# Altium footprint library Leaded.pcblib: 24 footprints (part 2 of 2)
Each footprint in its own frame and in the unit in brackets; x right, y up, seen from the top. Pads: shape width x height; smd on the part's side, far side on the other; paste and mask are expansions set on the pad; w line width, h text height; cw(c..) or ccw(c..) is an arc to the next point about the centre after c.
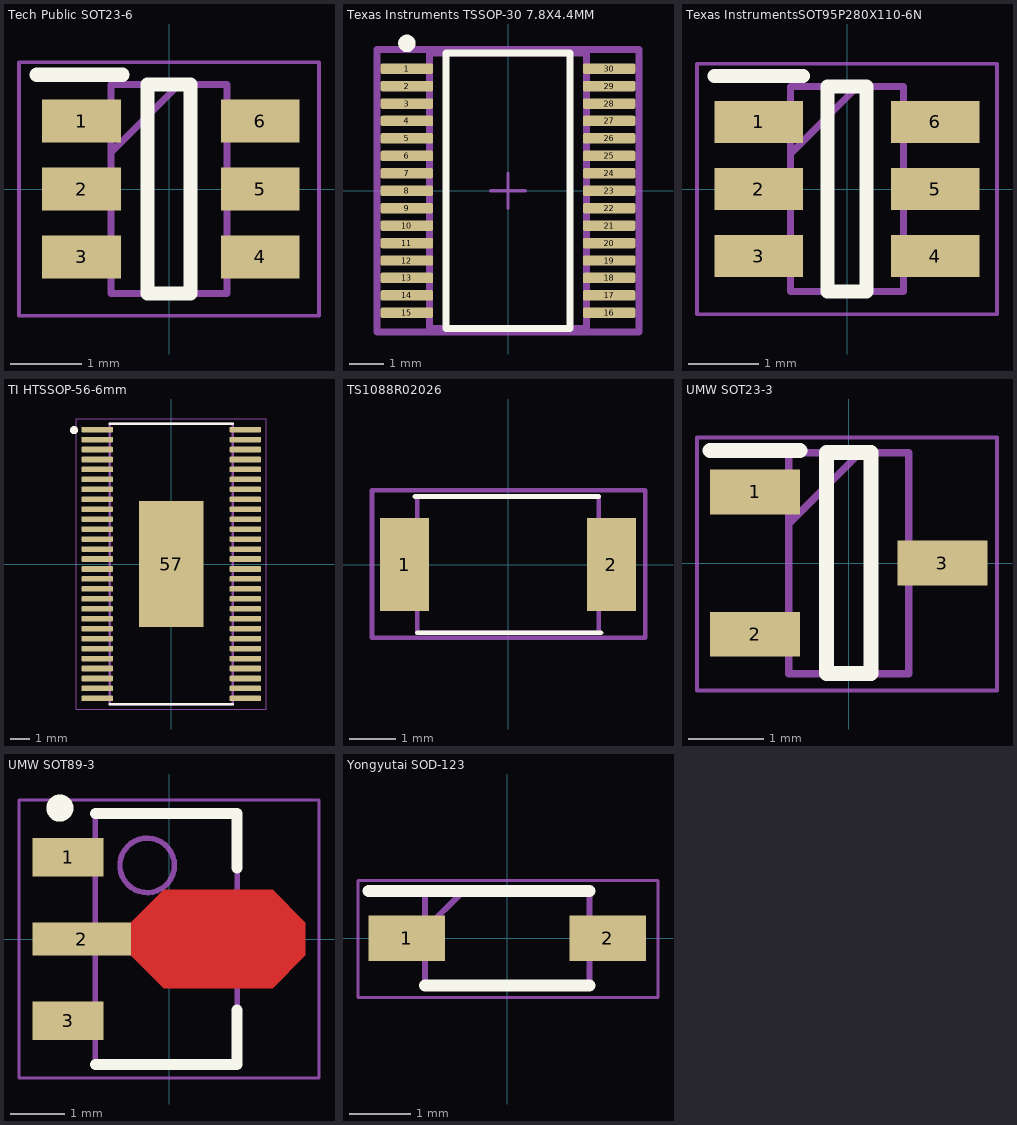
[diagram p1: the footprints below, top view; thin cyan lines are the x and y axes]

## Tech Public SOT23-6 [mm]
height 1.45
pads (6):
  rect 1.1x0.6 smd paste-0.03 mask+0.1: 1(-1.225,0.95) 2(-1.225,0) 3(-1.225,-0.95) 4(1.275,-0.95) 5(1.275,0) 6(1.275,0.95)
Top Overlay:
  lines w0.2: -1.85,1.6 -0.65,1.6 ; -0.3,-1.462 -0.3,1.462 0.3,1.462 0.3,-1.462 -0.3,-1.462
Mechanical 13:
  lines w0.1: -0.812,0.512 0.138,1.462 ; -0.812,-1.462 0.812,-1.462 0.812,1.462 -0.812,1.462 -0.812,-1.462
Mechanical 15:
  lines w0.05: -2.1,-1.775 2.1,-1.775 2.1,1.775 -2.1,1.775 -2.1,-1.775
3D body "USBLC6-2SC6.stp": height 1.45, standoff 0, extent -1.4,-1.462 1.4,1.462

## Texas Instruments TSSOP-30 7.8X4.4MM [mm]
height 1.2
pads (30):
  rrect33% 1.5x0.3 smd paste-0.006 mask+0.05: 1(-2.9,3.5) 2(-2.9,3) 3(-2.9,2.5) 4(-2.9,2) 5(-2.9,1.5) 6(-2.9,1) 7(-2.9,0.5) 8(-2.9,0) 9(-2.9,-0.5) 10(-2.9,-1) 11(-2.9,-1.5) 12(-2.9,-2) 13(-2.9,-2.5) 14(-2.9,-3) 15(-2.9,-3.5) 16(2.9,-3.5) 17(2.9,-3) 18(2.9,-2.5) 19(2.9,-2) 20(2.9,-1.5) 21(2.9,-1) 22(2.9,-0.5) 23(2.9,0) 24(2.9,0.5) 25(2.9,1) 26(2.9,1.5) 27(2.9,2) 28(2.9,2.5) 29(2.9,3) 30(2.9,3.5)
Top Overlay:
  circle w0.25: c-2.9,4.225 r0.125
  lines w0.2: -1.775,-3.95 1.775,-3.95 1.775,3.95 -1.775,3.95 -1.775,-3.95
Top 3D Body:
  lines w0.2: -2.25,-3.95 2.25,-3.95 2.25,3.95 -2.25,3.95 -2.25,-3.95
Top Component Center:
  lines w0.1: -0.5,0 0.5,0 ; 0,-0.5 0,0.5
Top Courtyard:
  lines w0.2: -3.75,-4.05 3.75,-4.05 3.75,4.05 -3.75,4.05 -3.75,-4.05
Top Assembly:
  lines w0.2: -3.75,-4.05 3.75,-4.05 3.75,4.05 -3.75,4.05 -3.75,-4.05
  text ".Designator" at -2.252,-0.226 h1
3D body "IC_Texas_Instruments_BQ7693003DBTR_eec.STEP": height 0.25, standoff 0, extent -3.75,-4.05 3.75,4.05

## Texas InstrumentsSOT95P280X110-6N [mm]
height 1.1
pads (6):
  rect 1.25x0.6 smd: 1(-1.25,0.95) 2(-1.25,0) 3(-1.25,-0.95) 4(1.25,-0.95) 5(1.25,0) 6(1.25,0.95)
Top Overlay:
  lines w0.2: -1.875,1.6 -0.625,1.6 ; -0.275,-1.45 -0.275,1.45 0.275,1.45 0.275,-1.45 -0.275,-1.45
Top Designator:
  text ".Designator" at -7.618,-0.508 h1.52
Mechanical 13:
  lines w0.1: -0.8,0.5 0.15,1.45 ; -0.8,-1.45 -0.8,1.45 0.8,1.45 0.8,-1.45 -0.8,-1.45
Mechanical 15:
  lines w0.05: -2.125,-1.775 -2.125,1.775 2.125,1.775 2.125,-1.775 -2.125,-1.775
3D body "LMR16006XDDCR.stp": height 0.97, standoff 0, extent -1.4,-1.45 1.4,1.45

## TI HTSSOP-56-6mm [mm]
pads (57):
  rrect25% 1.57x0.28 smd: 1(-3.72,6.75) 2(-3.72,6.25) 3(-3.72,5.75) 4(-3.72,5.25) 5(-3.72,4.75) 6(-3.72,4.25) 7(-3.72,3.75) 8(-3.72,3.25) 9(-3.72,2.75) 10(-3.72,2.25) 11(-3.72,1.75) 12(-3.72,1.25) 13(-3.72,0.75) 14(-3.72,0.25) 15(-3.72,-0.25) 16(-3.72,-0.75) 17(-3.72,-1.25) 18(-3.72,-1.75) 19(-3.72,-2.25) 20(-3.72,-2.75) 21(-3.72,-3.25) 22(-3.72,-3.75) 23(-3.72,-4.25) 24(-3.72,-4.75) 25(-3.72,-5.25) 26(-3.72,-5.75) 27(-3.72,-6.25) 28(-3.72,-6.75) 29(3.72,-6.75) 30(3.72,-6.25) 31(3.72,-5.75) 32(3.72,-5.25) 33(3.72,-4.75) 34(3.72,-4.25) 35(3.72,-3.75) 36(3.72,-3.25) 37(3.72,-2.75) 38(3.72,-2.25) 39(3.72,-1.75) 40(3.72,-1.25) 41(3.72,-0.75) 42(3.72,-0.25) 43(3.72,0.25) 44(3.72,0.75) 45(3.72,1.25) 46(3.72,1.75) 47(3.72,2.25) 48(3.72,2.75) 49(3.72,3.25) 50(3.72,3.75) 51(3.72,4.25) 52(3.72,4.75) 53(3.72,5.25) 54(3.72,5.75) 55(3.72,6.25) 56(3.72,6.75)
  rect 3.235x6.35 smd paste-4: 57(0,0)
Top Overlay:
  circle w0.2: c-4.886,6.725 r0.1
  lines w0.127: -3.1,-7.05 3.1,-7.05 ; -3.1,7.05 3.1,7.05
Top Paste:
  region: 1.023,-2.003 -1.024,-2.003 -1.024,2 1.023,2
Mechanical 13:
  lines w0.127: -3.1,-7.05 3.1,-7.05 3.1,7.05 -3.1,7.05 -3.1,-7.05
Mechanical 15:
  lines w0.05: -4.76,-7.3 4.76,-7.3 4.76,7.3 -4.76,7.3 -4.76,-7.3
3D body "step_temp.STEP": height 1.19, standoff -0.01, extent -4.05,-7 4.05,7

## TS1088R02026 [mm]
pads (2):
  rect 1.05x2 smd: 1(-2.225,0) 2(2.225,0)
Top Overlay:
  lines w0.1: -2,1.465 1.95,1.465 ; -1.95,-1.465 2,-1.465
Top 3D Body:
  lines w0.1: -1.95,-1.465 -1.95,1.465 1.95,1.465 1.95,-1.465 -1.95,-1.465
Top Courtyard:
  lines w0.1: -2.925,-1.575 2.95,-1.575 2.95,1.6 -2.925,1.6 -2.925,-1.575

## UMW SOT23-3 [mm]
height 1.15
pads (3):
  rect 1.2x0.6 smd: 1(-1.25,0.95) 2(-1.25,-0.95) 3(1.25,0)
Top Overlay:
  lines w0.2: -1.85,1.5 -0.65,1.5 ; -0.3,-1.475 -0.3,1.475 0.3,1.475 0.3,-1.475 -0.3,-1.475
Mechanical 13:
  lines w0.1: -0.8,0.525 0.15,1.475 ; -0.8,-1.475 -0.8,1.475 0.8,1.475 0.8,-1.475 -0.8,-1.475
Mechanical 15:
  lines w0.05: -2.025,-1.7 -2.025,1.675 1.979,1.675 1.979,-1.7 -2.025,-1.7
3D body "AO3407A.stp": height 1.25, standoff 0, extent -1.4,-1.475 1.4,1.475

## UMW SOT89-3 [mm] "SOT89, 3-Leads, Body 4,50x2,45mm, Pitch 1,50mm, Lead Span 4,1mm, IPC Medium Density"
height 1.6
pads (3):
  rect 1.3x0.7 smd: 1(-1.85,1.5) 3(-1.85,-1.5)
  rect 1.8x0.6 smd: 2(-1.6,0)
Top Layer:
  region: -0.7,0.3 -0.1,0.9 1.9,0.9 2.5,0.3 2.5,-0.3 1.9,-0.9 -0.1,-0.9 -0.7,-0.3
Top Overlay:
  circle w0.25: c-2,2.4 r0.125
  lines w0.2: -1.35,-2.3 1.25,-2.3 1.25,-1.3 ; -1.35,2.3 1.25,2.3 1.25,1.3
Top Courtyard:
  lines w0.05: -2.75,-2.55 -2.75,2.55 2.75,2.55 2.75,-2.55 -2.75,-2.55
  lines w0.1: -0.55,0 0.45,0 ; -0.05,-0.5 -0.05,0.5
Top Assembly:
  circle w0.1: c-0.4,1.35 r0.5
  lines w0.1: -1.35,-2.3 -1.35,2.3 1.25,2.3 1.25,-2.3 -1.35,-2.3
3D body: height 1.6, standoff 0, extent -1.35,-2.3 1.25,2.3

## Yongyutai SOD-123 [mm]
pads (2):
  rect 1.25x0.75 smd: 1(-1.65,0) 2(1.65,0)
Top Overlay:
  lines w0.2: -2.275,0.775 1.35,0.775 ; -1.35,-0.775 1.35,-0.775
Mechanical 13:
  lines w0.1: -1.35,0.15 -0.725,0.775 ; -1.35,-0.775 -1.35,0.775 1.35,0.775 1.35,-0.775 -1.35,-0.775
Mechanical 15:
  lines w0.05: -2.45,-0.975 -2.45,0.95 2.475,0.95 2.475,-0.975 -2.45,-0.975
3D body "BZT52B15-E3-18.stp": height 1.35, standoff 0, extent -1.85,-0.775 1.85,0.775